# EAGLE library part LRS-50-24 (library agsys-psu)
Mean Well LRS-50-24 AC-DC Power Supply 24V 2.2A
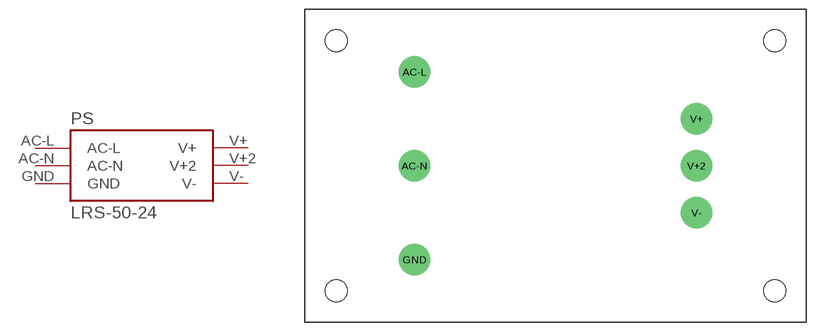
[diagram p0: symbol with the pads of LRS-50-24; footprint LRS-50-24]

Designator prefix PS

## LRS-50-24  [LRS-50-24]
AC-L  AC-L  pwr
AC-N  AC-N  pwr
GND  GND  pwr
V+  V+  pwr
V+2  V+2  pwr
V-  V-  pwr

## Footprint LRS-50-24 (pad centres in mm)
Mean Well LRS-50-24 AC-DC Power Supply
drill 3.2 pad 5: AC-L -22.5,15; AC-N -22.5,0; GND -22.5,-15; V+ 22.5,7.5; V+2 22.5,0; V- 22.5,-7.5
hole 3.5 at -35,20
hole 3.5 at 35,20
hole 3.5 at -35,-20
hole 3.5 at 35,-20